# EAGLE library part JST-PH-6 (library Tilmann)
6 pin PH JST connector Partnr: C225237 Datasheet: Link <https://datasheet.lcsc.com/lcsc/2010160435_CJT-Changjiang-Connectors-A2001WR-S-6P_C225237.pdf>
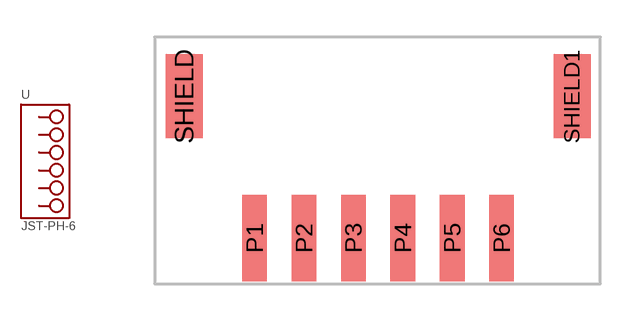
[diagram p0: symbol with the pads of JST-PH-6; footprint JST-PH-6]

Designator prefix -

## JST-PH-6 (PTRNR: C225237)  [JST-PH-6]
P1  1
P2  2
P3  3
P4  4
P5  5
P6  6

## Footprint JST-PH-6 (pad centres in mm)
smd 1 x 3.5: P1 -5,-5.15; P2 -3,-5.15; P3 -1,-5.15; P4 1,-5.15; P5 3,-5.15; P6 5,-5.15
smd 1.5 x 3.4: SHIELD -7.85,0.6; SHIELD1 7.85,0.6